# Altium integrated library Silicon Labs Clocks and Oscillators.IntLib: 678 symbols (part 33 of 45)
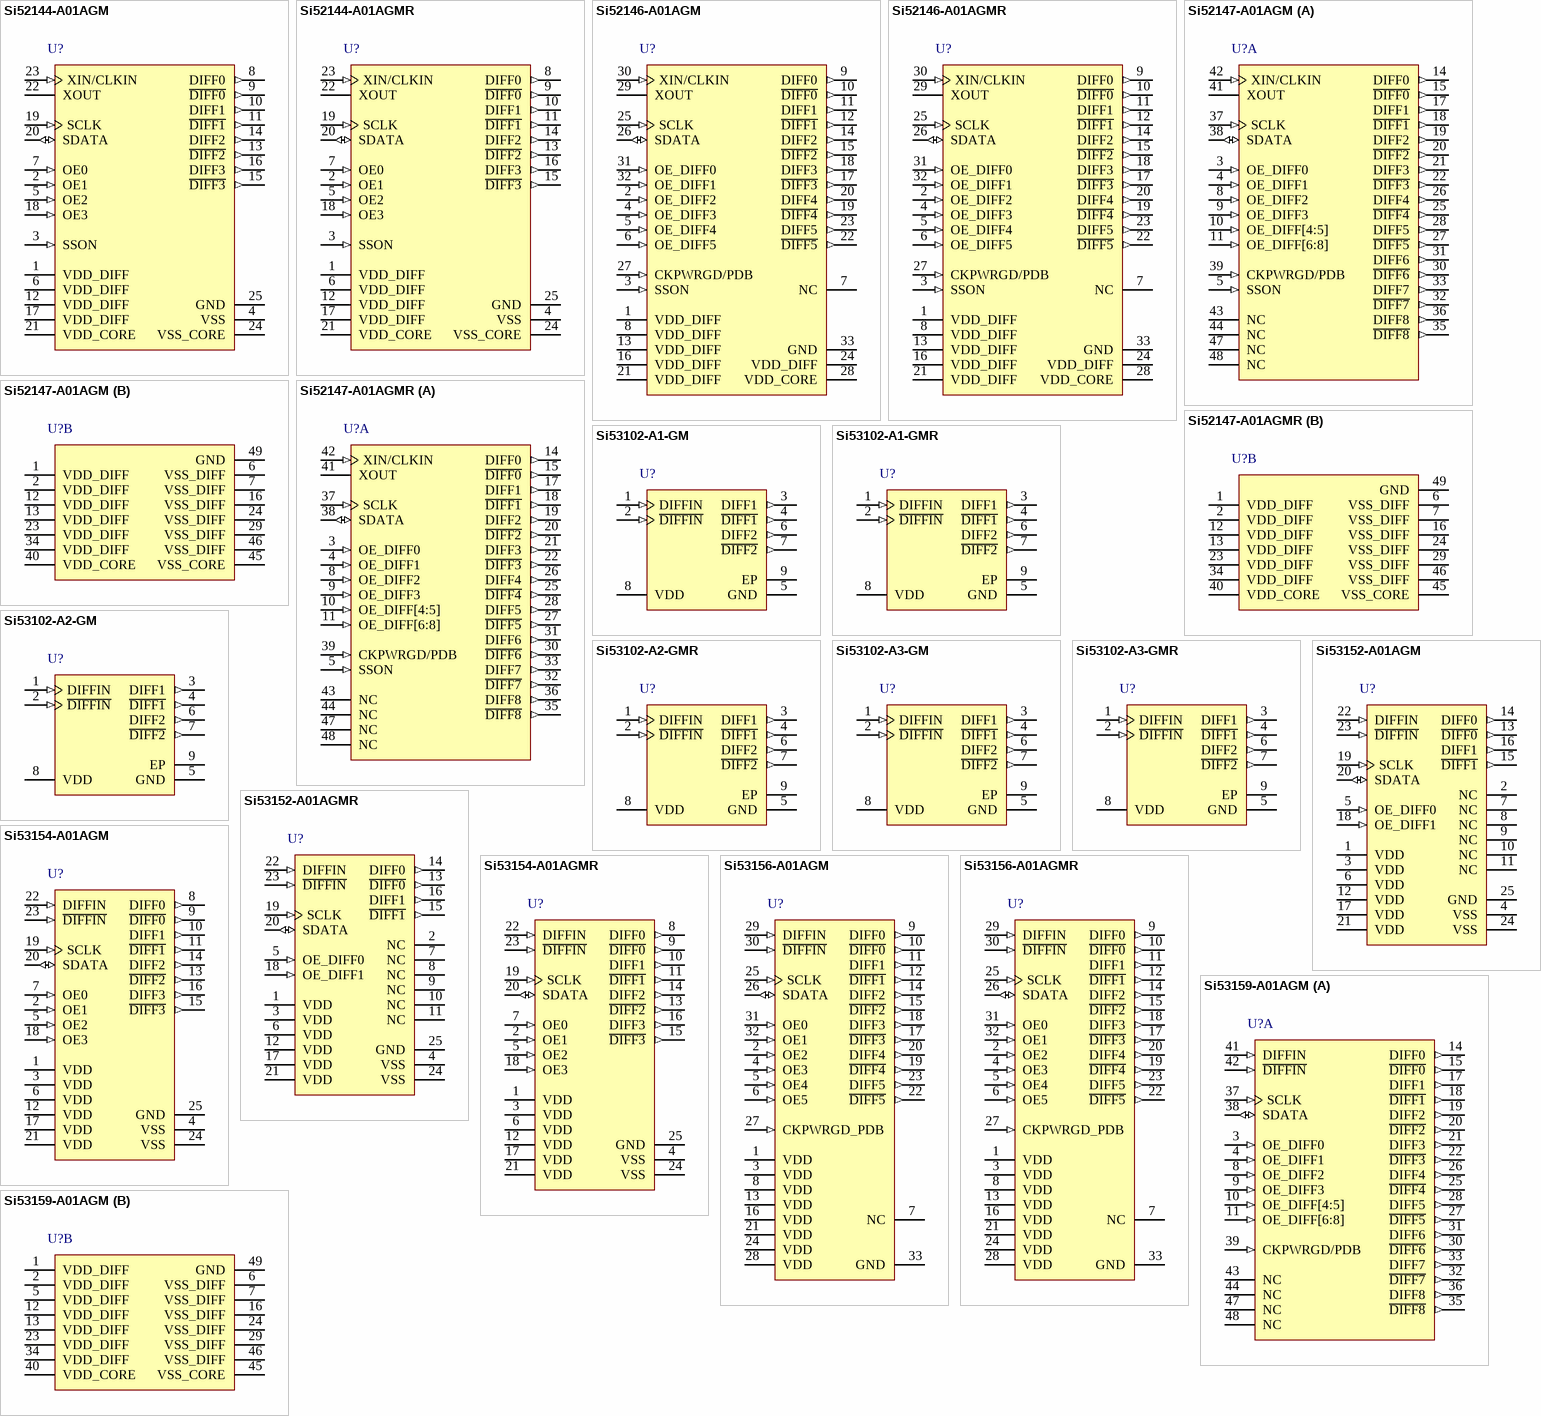
[diagram p76: symbols Si52144-A01AGM to Si53159-A01AGM]

## Si52147-A01AGMR
designator U?
PCI-Express Gen 1, Gen 2, & Gen 3 Nine Output Clock Generator, 3.3 V, 100 MHz Output, -40 to 85 degC, 48-pin QFN; Manufacturer: Silicon Labs; PartNumber: Si52147-A01AGMR; Output Format: HSCL; Output Frequency (MHz): 100; Packing: Tape and Reel; Phase Jitter (RMS): 1 ps; Reference Inputs: 1; VDD: 3.3 V; Sub-Family: Clock Generators; DatasheetVersion: Rev. 1.1; PackageVersion: Rev. 1.0, 05/2012; PackageReference: QFN-48; PackageDescription: 48-Pin Quad-Flat No-Leads Package, Body 6 x 6 mm, Pitch 0.4 mm; Supplier 1: Digi-Key; Supplier Part Number 1: SI52147-A01AGMR-ND; Supplier 2: Mouser; Supplier Part Number 2: 634-SI52147-A01AGMR; Mounting Technology: Surface Mount; Code_JEDEC: MO-220; Code_IPC: J-STD-020; ComponentLink1Description: Manufacturer URL; ComponentLink1URL: http://www.silabs.com/; ComponentLink2Description: Datasheet; ComponentLink2URL: http://www.silabs.com/Support%20Documents/TechnicalDocs/Si52147.pdf; ComponentLink3Description: Package Specification; ComponentLink3URL: http://www.silabs.com/Support%20Documents/TechnicalDocs/Si53159.pdf
footprint SLAB-QFN-48-4400x4400TP_A_N (QFN, 48-Leads, Body 6x6mm, Pitch 0.4mm, Thermal Pad 4.4x4.4mm, IPC Medium Density)
footprint SLAB-QFN-48-4400x4400TP_A_L (QFN, 48-Leads, Body 6x6mm, Pitch 0.4mm, Thermal Pad 4.4x4.4mm, IPC High Density)
footprint SLAB-QFN-48-4400x4400TP_A_M (QFN, 48-Leads, Body 6x6mm, Pitch 0.4mm, Thermal Pad 4.4x4.4mm, IPC Low Density)
part A pins: 3 OE_DIFF0 (in) "Active high input pin enables DIFF0 (internal 100 kohm pull-up).", 4 OE_DIFF1 (in) "Active high input pin enables DIFF1 (internal 100 kohm pull-up).", 5 SSON (in) "Active high input pin enables -0.5% spread on DIFF clocks (internal 100 kohm pull-down)", 8 OE_DIFF2 (in) "Active high input pin enables DIFF2 (internal 100 kohm pull-up).", 9 OE_DIFF3 (in) "Active high input pin enables DIFF3 (internal 100 kohm pull-up).", 10 OE_DIFF[4:5] (in) "Active high input pin enables DIFF[4:5] (internal 100 kohm pull-up).", 11 OE_DIFF[6:8] (in) "Active high input pin enables DIFF[6:8] (internal 100 kohm pull-up).", 14 DIFF0 (out) "0.7 V, 100 MHz differential clock", 15 ~{DIFF0} (out) "0.7 V, 100 MHz differential clock", 17 DIFF1 (out) "0.7 V, 100 MHz differential clock", 18 ~{DIFF1} (out) "0.7 V, 100 MHz differential clock", 19 DIFF2 (out) "0.7 V, 100 MHz differential clock", 20 ~{DIFF2} (out) "0.7 V, 100 MHz differential clock", 21 DIFF3 (out) "0.7 V, 100 MHz differential clock", 22 ~{DIFF3} (out) "0.7 V, 100 MHz differential clock", 25 ~{DIFF4} (out) "0.7 V, 100 MHz differential clock", 26 DIFF4 (out) "0.7 V, 100 MHz differential clock", 27 ~{DIFF5} (out) "0.7 V, 100 MHz differential clock", 28 DIFF5 (out) "0.7 V, 100 MHz differential clock", 30 ~{DIFF6} (out) "0.7 V, 100 MHz differential clock", 31 DIFF6 (out) "0.7 V, 100 MHz differential clock", 32 ~{DIFF7} (out) "0.7 V, 100 MHz differential clock", 33 DIFF7 (out) "0.7 V, 100 MHz differential clock", 35 ~{DIFF8} (out) "0.7 V, 100 MHz differential clock", 36 DIFF8 (out) "0.7 V, 100 MHz differential clock", 37 SCLK (in) "I2C compatible SCLOCK", 38 SDATA (io) "I2C compatible SDATA", 39 CKPWRGD/PDB (in) "Active low input pin asserts power down (PDB) and disables all outputs (internal 100 kohm pull-up).", 41 XOUT "25.00 MHz crystal output, Float XOUT if using only CLKIN (Clock input).", 42 XIN/CLKIN (in) "25.00 MHz crystal input or 3.3 V, 25 MHz Clock Input.", 43 NC "No Connect", 44 NC "No Connect", 47 NC "No Connect", 48 NC "No Connect"
part B pins: 1 VDD_DIFF (power) "3.3 V Power Supply", 2 VDD_DIFF (power) "3.3 V Power Supply", 6 VSS_DIFF (power) "Ground", 7 VSS_DIFF (power) "Ground", 12 VDD_DIFF (power) "3.3 V Power Supply", 13 VDD_DIFF (power) "3.3 V Power Supply", 16 VSS_DIFF (power) "Ground", 23 VDD_DIFF (power) "3.3V Power Supply", 24 VSS_DIFF (power) "Ground", 29 VSS_DIFF (power) "Ground", 34 VDD_DIFF (power) "3.3 V Power Supply", 40 VDD_CORE (power) "3.3 V Power Supply", 45 VSS_CORE (power) "Ground", 46 VSS_DIFF (power) "Ground", 49 GND (power) "Ground for bottom pad of the IC."

## Si53102-A1-GM
designator U?
PCI-Express Gen 1, 1:2 Fan-out Clock Buffer, 100 MHz, -40 to 85 degC, 8-pin SON; Manufacturer: Silicon Labs; PartNumber: Si53102-A1-GM; Frequency (MHz): 100; Output Format: HCSL; Sub-Family: Clock Buffers; DatasheetVersion: Rev. 1.1; PackageReference: TDFN-8; PackageDescription: 8-Pin Thin Dual Flat No-Lead Package, Body 1.6 x 1.4 mm, Pitch 0.4 mm; Supplier 1: Digi-Key; Supplier Part Number 1: SI53102-A1-GM-ND; Supplier 2: Mouser; Supplier Part Number 2: 634-SI53102-A1-GM; Mounting Technology: Surface Mount; Code_IPC: J-STD-020; ComponentLink1Description: Manufacturer URL; ComponentLink1URL: http://www.silabs.com/; ComponentLink2Description: Datasheet; ComponentLink2URL: http://www.silabs.com/Support%20Documents/TechnicalDocs/Si53102-A1-A2-A3.pdf; ComponentLink3Description: Package Specification; ComponentLink3URL: http://www.silabs.com/Support%20Documents/TechnicalDocs/Si53102-A1-A2-A3.pdf
footprint SLAB-TDFN-8_V (SON, 8-Leads, Body 1.6x1.4mm, Pitch 0.4mm, Thermal Pad 1.1x0.25mm)
pins: 1 DIFFIN (in) "0.7 V, 100 MHz differentials clock input", 2 ~{DIFFIN} (in) "0.7 V, 100 MHz differentials clock input", 3 DIFF1 (out) "0.7 V, 100 MHz differential clock output", 4 ~{DIFF1} (out) "0.7 V, 100 MHz differential clock output", 5 GND (power) "Ground", 6 DIFF2 (out) "0.7 V, 100 MHz differential clock output", 7 ~{DIFF2} (out) "0.7 V, 100 MHz differential clock output", 8 VDD (power) "2.5 V or 3.3 V Power supply", 9 EP

## Si53102-A1-GMR
designator U?
PCI-Express Gen 1, 1:2 Fan-out Clock Buffer, 100 MHz, -40 to 85 degC, 8-pin SON, Tape and Reel; Manufacturer: Silicon Labs; PartNumber: Si53102-A1-GMR; Frequency (MHz): 100; Output Format: HCSL; Sub-Family: Clock Buffers; DatasheetVersion: Rev. 1.1; PackageReference: TDFN-8; PackageDescription: 8-Pin Thin Dual Flat No-Lead Package, Body 1.6 x 1.4 mm, Pitch 0.4 mm; Supplier 1: Digi-Key; Supplier Part Number 1: SI53102-A1-GMR-ND; Supplier 2: Mouser; Supplier Part Number 2: 634-SI53102-A1-GMR; Packing: Tape and Reel; Mounting Technology: Surface Mount; Code_IPC: J-STD-020; ComponentLink1Description: Manufacturer URL; ComponentLink1URL: http://www.silabs.com/; ComponentLink2Description: Datasheet; ComponentLink2URL: http://www.silabs.com/Support%20Documents/TechnicalDocs/Si53102-A1-A2-A3.pdf; ComponentLink3Description: Package Specification; ComponentLink3URL: http://www.silabs.com/Support%20Documents/TechnicalDocs/Si53102-A1-A2-A3.pdf
footprint SLAB-TDFN-8_V (SON, 8-Leads, Body 1.6x1.4mm, Pitch 0.4mm, Thermal Pad 1.1x0.25mm)
pins: 1 DIFFIN (in) "0.7 V, 100 MHz differentials clock input", 2 ~{DIFFIN} (in) "0.7 V, 100 MHz differentials clock input", 3 DIFF1 (out) "0.7 V, 100 MHz differential clock output", 4 ~{DIFF1} (out) "0.7 V, 100 MHz differential clock output", 5 GND (power) "Ground", 6 DIFF2 (out) "0.7 V, 100 MHz differential clock output", 7 ~{DIFF2} (out) "0.7 V, 100 MHz differential clock output", 8 VDD (power) "2.5 V or 3.3 V Power supply", 9 EP

## Si53102-A2-GM
designator U?
PCI-Express Gen 2, 1:2 Fan-out Clock Buffer, 100 MHz, -40 to 85 degC, 8-pin SON; Manufacturer: Silicon Labs; PartNumber: Si53102-A2-GM; Frequency (MHz): 100; Output Format: HCSL; Sub-Family: Clock Buffers; DatasheetVersion: Rev. 1.1; PackageReference: TDFN-8; PackageDescription: 8-Pin Thin Dual Flat No-Lead Package, Body 1.6 x 1.4 mm, Pitch 0.4 mm; Supplier 1: Digi-Key; Supplier Part Number 1: SI53102-A2-GM-ND; Supplier 2: Mouser; Supplier Part Number 2: 634-SI53102-A2-GM; Mounting Technology: Surface Mount; Code_IPC: J-STD-020; ComponentLink1Description: Manufacturer URL; ComponentLink1URL: http://www.silabs.com/; ComponentLink2Description: Datasheet; ComponentLink2URL: http://www.silabs.com/Support%20Documents/TechnicalDocs/Si53102-A1-A2-A3.pdf; ComponentLink3Description: Package Specification; ComponentLink3URL: http://www.silabs.com/Support%20Documents/TechnicalDocs/Si53102-A1-A2-A3.pdf
footprint SLAB-TDFN-8_V (SON, 8-Leads, Body 1.6x1.4mm, Pitch 0.4mm, Thermal Pad 1.1x0.25mm)
pins: 1 DIFFIN (in) "0.7 V, 100 MHz differentials clock input", 2 ~{DIFFIN} (in) "0.7 V, 100 MHz differentials clock input", 3 DIFF1 (out) "0.7 V, 100 MHz differential clock output", 4 ~{DIFF1} (out) "0.7 V, 100 MHz differential clock output", 5 GND (power) "Ground", 6 DIFF2 (out) "0.7 V, 100 MHz differential clock output", 7 ~{DIFF2} (out) "0.7 V, 100 MHz differential clock output", 8 VDD (power) "2.5 V or 3.3 V Power supply", 9 EP

## Si53102-A2-GMR
designator U?
PCI-Express Gen 2, 1:2 Fan-out Clock Buffer, 100 MHz, -40 to 85 degC, 8-pin SON, Tape and Reel; Manufacturer: Silicon Labs; PartNumber: Si53102-A2-GMR; Frequency (MHz): 100; Output Format: HCSL; Sub-Family: Clock Buffers; DatasheetVersion: Rev. 1.1; PackageReference: TDFN-8; PackageDescription: 8-Pin Thin Dual Flat No-Lead Package, Body 1.6 x 1.4 mm, Pitch 0.4 mm; Supplier 1: Digi-Key; Supplier Part Number 1: SI53102-A2-GMR-ND; Supplier 2: Mouser; Supplier Part Number 2: 634-SI53102-A2-GMR; Packing: Tape and Reel; Mounting Technology: Surface Mount; Code_IPC: J-STD-020; ComponentLink1Description: Manufacturer URL; ComponentLink1URL: http://www.silabs.com/; ComponentLink2Description: Datasheet; ComponentLink2URL: http://www.silabs.com/Support%20Documents/TechnicalDocs/Si53102-A1-A2-A3.pdf; ComponentLink3Description: Package Specification; ComponentLink3URL: http://www.silabs.com/Support%20Documents/TechnicalDocs/Si53102-A1-A2-A3.pdf
footprint SLAB-TDFN-8_V (SON, 8-Leads, Body 1.6x1.4mm, Pitch 0.4mm, Thermal Pad 1.1x0.25mm)
pins: 1 DIFFIN (in) "0.7 V, 100 MHz differentials clock input", 2 ~{DIFFIN} (in) "0.7 V, 100 MHz differentials clock input", 3 DIFF1 (out) "0.7 V, 100 MHz differential clock output", 4 ~{DIFF1} (out) "0.7 V, 100 MHz differential clock output", 5 GND (power) "Ground", 6 DIFF2 (out) "0.7 V, 100 MHz differential clock output", 7 ~{DIFF2} (out) "0.7 V, 100 MHz differential clock output", 8 VDD (power) "2.5 V or 3.3 V Power supply", 9 EP

## Si53102-A3-GM
designator U?
PCI-Express Gen 3, 1:2 Fan-out Clock Buffer, 100 MHz, -40 to 85 degC, 8-pin SON; Manufacturer: Silicon Labs; PartNumber: Si53102-A3-GM; Frequency (MHz): 100; Output Format: HCSL; Sub-Family: Clock Buffers; DatasheetVersion: Rev. 1.1; PackageReference: TDFN-8; PackageDescription: 8-Pin Thin Dual Flat No-Lead Package, Body 1.6 x 1.4 mm, Pitch 0.4 mm; Supplier 1: Digi-Key; Supplier Part Number 1: SI53102-A3-GM-ND; Supplier 2: Mouser; Supplier Part Number 2: 634-SI53102-A3-GM; Mounting Technology: Surface Mount; Code_IPC: J-STD-020; ComponentLink1Description: Manufacturer URL; ComponentLink1URL: http://www.silabs.com/; ComponentLink2Description: Datasheet; ComponentLink2URL: http://www.silabs.com/Support%20Documents/TechnicalDocs/Si53102-A1-A2-A3.pdf; ComponentLink3Description: Package Specification; ComponentLink3URL: http://www.silabs.com/Support%20Documents/TechnicalDocs/Si53102-A1-A2-A3.pdf
footprint SLAB-TDFN-8_V (SON, 8-Leads, Body 1.6x1.4mm, Pitch 0.4mm, Thermal Pad 1.1x0.25mm)
pins: 1 DIFFIN (in) "0.7 V, 100 MHz differentials clock input", 2 ~{DIFFIN} (in) "0.7 V, 100 MHz differentials clock input", 3 DIFF1 (out) "0.7 V, 100 MHz differential clock output", 4 ~{DIFF1} (out) "0.7 V, 100 MHz differential clock output", 5 GND (power) "Ground", 6 DIFF2 (out) "0.7 V, 100 MHz differential clock output", 7 ~{DIFF2} (out) "0.7 V, 100 MHz differential clock output", 8 VDD (power) "2.5 V or 3.3 V Power supply", 9 EP

## Si53102-A3-GMR
designator U?
PCI-Express Gen 3, 1:2 Fan-out Clock Buffer, 100 MHz, -40 to 85 degC, 8-pin SON, Tape and Reel; Manufacturer: Silicon Labs; PartNumber: Si53102-A3-GMR; Frequency (MHz): 100; Output Format: HCSL; Sub-Family: Clock Buffers; DatasheetVersion: Rev. 1.1; PackageReference: TDFN-8; PackageDescription: 8-Pin Thin Dual Flat No-Lead Package, Body 1.6 x 1.4 mm, Pitch 0.4 mm; Supplier 1: Digi-Key; Supplier Part Number 1: SI53102-A3-GMR-ND; Supplier 2: Mouser; Supplier Part Number 2: 634-SI53102-A3-GMR; Packing: Tape and Reel; Mounting Technology: Surface Mount; Code_IPC: J-STD-020; ComponentLink1Description: Manufacturer URL; ComponentLink1URL: http://www.silabs.com/; ComponentLink2Description: Datasheet; ComponentLink2URL: http://www.silabs.com/Support%20Documents/TechnicalDocs/Si53102-A1-A2-A3.pdf; ComponentLink3Description: Package Specification; ComponentLink3URL: http://www.silabs.com/Support%20Documents/TechnicalDocs/Si53102-A1-A2-A3.pdf
footprint SLAB-TDFN-8_V (SON, 8-Leads, Body 1.6x1.4mm, Pitch 0.4mm, Thermal Pad 1.1x0.25mm)
pins: 1 DIFFIN (in) "0.7 V, 100 MHz differentials clock input", 2 ~{DIFFIN} (in) "0.7 V, 100 MHz differentials clock input", 3 DIFF1 (out) "0.7 V, 100 MHz differential clock output", 4 ~{DIFF1} (out) "0.7 V, 100 MHz differential clock output", 5 GND (power) "Ground", 6 DIFF2 (out) "0.7 V, 100 MHz differential clock output", 7 ~{DIFF2} (out) "0.7 V, 100 MHz differential clock output", 8 VDD (power) "2.5 V or 3.3 V Power supply", 9 EP

## Si53152-A01AGM
designator U?
PCI-Express Gen 1, Gen 2, & Gen 3 Fanout Buffer, 100 to 210 MHz, -40 to 85 degC, 24-pin QFN; Manufacturer: Silicon Labs; PartNumber: Si53152-A01AGM; Output Format: HSCL; Sub-Family: Clock Buffers; DatasheetVersion: Rev. 1.0; PackageReference: QFN-24; PackageDescription: 24-Pin Quad-Flat No-Leads Package, Body 4 x 4 mm, Pitch 0.5 mm; Supplier 1: Digi-Key; Supplier Part Number 1: 336-2162-ND; Supplier 2: Mouser; Supplier Part Number 2: 634-SI53152A01A-GM; Mounting Technology: Surface Mount; Code_JEDEC: MO-220; Code_IPC: J-STD-020; ComponentLink1Description: Manufacturer URL; ComponentLink1URL: http://www.silabs.com/; ComponentLink2Description: Datasheet; ComponentLink2URL: http://www.silabs.com/Support%20Documents/TechnicalDocs/Si53152.pdf; ComponentLink3Description: Package Specification; ComponentLink3URL: http://www.silabs.com/Support%20Documents/TechnicalDocs/Si53152.pdf
footprint SLAB-QFN-24-2700x2700TP_N (QFN, 24-Leads, Body 4x4mm, Pitch 0.5mm, Thermal Pad 2.7x2.7mm, IPC Medium Density)
footprint SLAB-QFN-24-2700x2700TP_L (QFN, 24-Leads, Body 4x4mm, Pitch 0.5mm, Thermal Pad 2.7x2.7mm, IPC High Density)
footprint SLAB-QFN-24-2700x2700TP_M (QFN, 24-Leads, Body 4x4mm, Pitch 0.5mm, Thermal Pad 2.7x2.7mm, IPC Low Density)
pins: 1 VDD (power) "3.3 V power supply.", 2 NC "No connect.", 3 VDD (power) "3.3 V power supply.", 4 VSS (power) "Ground.", 5 OE_DIFF0 (in) "Active high input pin enables DIFF0 (internal 100 kohm pull-up). Refer to Table 1 on page 4 for OE specifications.", 6 VDD (power) "3.3 V power supply.", 7 NC "No connect.", 8 NC "No connect.", 9 NC "No connect.", 10 NC "No connect.", 11 NC "No connect.", 12 VDD (power) "3.3 V power supply.", 13 ~{DIFF0} (out) "0.7 V, 100 MHz differential clock.", 14 DIFF0 (out) "0.7 V, 100 MHz differential clock.", 15 ~{DIFF1} (out) "0.7 V, 100 MHz differential clock.", 16 DIFF1 (out) "0.7 V, 100 MHz differential clock.", 17 VDD (power) "3.3 V power supply.", 18 OE_DIFF1 (in) "Active high input pin enables DIFF1 (internal 100 kohm pull-up). Refer to Table 1 on page 4 for OE specifications.", 19 SCLK (in) "SMBus compatible SCLOCK.", 20 SDATA (io) "SMBus compatible SDATA.", 21 VDD (power) "3.3 V power supply.", 22 DIFFIN (in) "0.7 V Differential True Input, typically 100 MHz. Input frequency range 100 to 210 MHz.", 23 ~{DIFFIN} (in) "0.7 V Differential Complement Input, typically 100 MHz. Input frequency range 100 to 210 MHz.", 24 VSS (power) "Ground.", 25 GND (power) "Ground for bottom pad of the IC."

## Si53152-A01AGMR
designator U?
PCI-Express Gen 1, Gen 2, & Gen 3 Fanout Buffer, 100 to 210 MHz, -40 to 85 degC, 24-pin QFN, Tape and Reel; Manufacturer: Silicon Labs; PartNumber: Si53152-A01AGMR; Output Format: HSCL; Sub-Family: Clock Buffers; DatasheetVersion: Rev. 1.0; PackageReference: QFN-24; PackageDescription: 24-Pin Quad-Flat No-Leads Package, Body 4 x 4 mm, Pitch 0.5 mm; Supplier 1: Digi-Key; Supplier Part Number 1: SI53152-A01AGMR-ND; Supplier 2: Mouser; Supplier Part Number 2: 634-SI53152-A01AGMR; Packing: Tape and Reel; Mounting Technology: Surface Mount; Code_JEDEC: MO-220; Code_IPC: J-STD-020; ComponentLink1Description: Manufacturer URL; ComponentLink1URL: http://www.silabs.com/; ComponentLink2Description: Datasheet; ComponentLink2URL: http://www.silabs.com/Support%20Documents/TechnicalDocs/Si53152.pdf; ComponentLink3Description: Package Specification; ComponentLink3URL: http://www.silabs.com/Support%20Documents/TechnicalDocs/Si53152.pdf
footprint SLAB-QFN-24-2700x2700TP_N (QFN, 24-Leads, Body 4x4mm, Pitch 0.5mm, Thermal Pad 2.7x2.7mm, IPC Medium Density)
footprint SLAB-QFN-24-2700x2700TP_L (QFN, 24-Leads, Body 4x4mm, Pitch 0.5mm, Thermal Pad 2.7x2.7mm, IPC High Density)
footprint SLAB-QFN-24-2700x2700TP_M (QFN, 24-Leads, Body 4x4mm, Pitch 0.5mm, Thermal Pad 2.7x2.7mm, IPC Low Density)
pins: 1 VDD (power) "3.3 V power supply.", 2 NC "No connect.", 3 VDD (power) "3.3 V power supply.", 4 VSS (power) "Ground.", 5 OE_DIFF0 (in) "Active high input pin enables DIFF0 (internal 100 kohm pull-up). Refer to Table 1 on page 4 for OE specifications.", 6 VDD (power) "3.3 V power supply.", 7 NC "No connect.", 8 NC "No connect.", 9 NC "No connect.", 10 NC "No connect.", 11 NC "No connect.", 12 VDD (power) "3.3 V power supply.", 13 ~{DIFF0} (out) "0.7 V, 100 MHz differential clock.", 14 DIFF0 (out) "0.7 V, 100 MHz differential clock.", 15 ~{DIFF1} (out) "0.7 V, 100 MHz differential clock.", 16 DIFF1 (out) "0.7 V, 100 MHz differential clock.", 17 VDD (power) "3.3 V power supply.", 18 OE_DIFF1 (in) "Active high input pin enables DIFF1 (internal 100 kohm pull-up). Refer to Table 1 on page 4 for OE specifications.", 19 SCLK (in) "SMBus compatible SCLOCK.", 20 SDATA (io) "SMBus compatible SDATA.", 21 VDD (power) "3.3 V power supply.", 22 DIFFIN (in) "0.7 V Differential True Input, typically 100 MHz. Input frequency range 100 to 210 MHz.", 23 ~{DIFFIN} (in) "0.7 V Differential Complement Input, typically 100 MHz. Input frequency range 100 to 210 MHz.", 24 VSS (power) "Ground.", 25 GND (power) "Ground for bottom pad of the IC."

## Si53154-A01AGM
designator U?
PCI-Express Gen 1, Gen 2, & Gen 3 Quad Fanout Buffer, 100 to 210 MHz, -40 to 85 degC, 24-pin QFN; Manufacturer: Silicon Labs; PartNumber: Si53154-A01AGM; Output Format: HSCL; Sub-Family: Clock Buffers; DatasheetVersion: Rev. 1.0; PackageReference: QFN-24; PackageDescription: 24-Pin Quad-Flat No-Leads Package, Body 4 x 4 mm, Pitch 0.5 mm; Supplier 1: Digi-Key; Supplier Part Number 1: 336-2163-ND; Supplier 2: Mouser; Supplier Part Number 2: 634-SI53154A01A-GM; Mounting Technology: Surface Mount; Code_JEDEC: MO-220; Code_IPC: J-STD-020; ComponentLink1Description: Manufacturer URL; ComponentLink1URL: http://www.silabs.com/; ComponentLink2Description: Datasheet; ComponentLink2URL: http://www.silabs.com/Support%20Documents/TechnicalDocs/Si53154.pdf; ComponentLink3Description: Package Specification; ComponentLink3URL: http://www.silabs.com/Support%20Documents/TechnicalDocs/Si53152.pdf
footprint SLAB-QFN-24-2700x2700TP_N (QFN, 24-Leads, Body 4x4mm, Pitch 0.5mm, Thermal Pad 2.7x2.7mm, IPC Medium Density)
footprint SLAB-QFN-24-2700x2700TP_L (QFN, 24-Leads, Body 4x4mm, Pitch 0.5mm, Thermal Pad 2.7x2.7mm, IPC High Density)
footprint SLAB-QFN-24-2700x2700TP_M (QFN, 24-Leads, Body 4x4mm, Pitch 0.5mm, Thermal Pad 2.7x2.7mm, IPC Low Density)
pins: 1 VDD (power) "3.3 V power supply.", 2 OE1 (in) "Active high input pin enables DIFF1 (internal 100 kohm pull-up). Refer to Table 1 on page 4 for OE specifications.", 3 VDD (power) "3.3 V power supply.", 4 VSS (power) "Ground.", 5 OE2 (in) "Active high input pin enables DIFF2 (internal 100 kohm pull-up). Refer to Table 1 on page 4 for OE specifications.", 6 VDD (power) "3.3 V power supply.", 7 OE0 (in) "Active high input pin enables DIFF0 (internal 100 kohm pull-up). Refer to Table 1 on page 4 for OE specifications.", 8 DIFF0 (out) "0.7 V, differential clock output.", 9 ~{DIFF0} (out) "0.7 V, differential clock output.", 10 DIFF1 (out) "0.7 V, differential clock output.", 11 ~{DIFF1} (out) "0.7 V, differential clock output.", 12 VDD (power) "3.3 V power supply.", 13 ~{DIFF2} (out) "0.7 V, differential clock output.", 14 DIFF2 (out) "0.7 V, differential clock output.", 15 ~{DIFF3} (out) "0.7 V, differential clock output.", 16 DIFF3 (out) "0.7 V, differential clock output.", 17 VDD (power) "3.3 V power supply.", 18 OE3 (in) "Active high input pin enables DIFF3 (internal 100 kohm pull-up). Refer to Table 1 on page 4 for OE specifications.", 19 SCLK (in) "SMBus compatible SCLOCK.", 20 SDATA (io) "SMBus compatible SDATA.", 21 VDD (power) "3.3 V power supply.", 22 DIFFIN (in) "0.7 V Differential True Input, typically 100 MHz. Input frequency range 100 to 210 MHz.", 23 ~{DIFFIN} (in) "0.7 V Differential Complement Input, typically 100 MHz. Input frequency range 100 to 210 MHz.", 24 VSS (power) "Ground.", 25 GND (power) "Ground for bottom pad of the IC."

## Si53154-A01AGMR
designator U?
PCI-Express Gen 1, Gen 2, & Gen 3 Quad Fanout Buffer, 100 to 210 MHz, -40 to 85 degC, 24-pin QFN, Tape and Reel; Manufacturer: Silicon Labs; PartNumber: Si53154-A01AGMR; Output Format: HSCL; Sub-Family: Clock Buffers; DatasheetVersion: Rev. 1.0; PackageReference: QFN-24; PackageDescription: 24-Pin Quad-Flat No-Leads Package, Body 4 x 4 mm, Pitch 0.5 mm; Supplier 1: Digi-Key; Supplier Part Number 1: SI53154-A01AGMR-ND; Supplier 2: Mouser; Supplier Part Number 2: 634-SI53154-A01AGMR; Packing: Tape and Reel; Mounting Technology: Surface Mount; Code_JEDEC: MO-220; Code_IPC: J-STD-020; ComponentLink1Description: Manufacturer URL; ComponentLink1URL: http://www.silabs.com/; ComponentLink2Description: Datasheet; ComponentLink2URL: http://www.silabs.com/Support%20Documents/TechnicalDocs/Si53154.pdf; ComponentLink3Description: Package Specification; ComponentLink3URL: http://www.silabs.com/Support%20Documents/TechnicalDocs/Si53152.pdf
footprint SLAB-QFN-24-2700x2700TP_N (QFN, 24-Leads, Body 4x4mm, Pitch 0.5mm, Thermal Pad 2.7x2.7mm, IPC Medium Density)
footprint SLAB-QFN-24-2700x2700TP_L (QFN, 24-Leads, Body 4x4mm, Pitch 0.5mm, Thermal Pad 2.7x2.7mm, IPC High Density)
footprint SLAB-QFN-24-2700x2700TP_M (QFN, 24-Leads, Body 4x4mm, Pitch 0.5mm, Thermal Pad 2.7x2.7mm, IPC Low Density)
pins: 1 VDD (power) "3.3 V power supply.", 2 OE1 (in) "Active high input pin enables DIFF1 (internal 100 kohm pull-up). Refer to Table 1 on page 4 for OE specifications.", 3 VDD (power) "3.3 V power supply.", 4 VSS (power) "Ground.", 5 OE2 (in) "Active high input pin enables DIFF2 (internal 100 kohm pull-up). Refer to Table 1 on page 4 for OE specifications.", 6 VDD (power) "3.3 V power supply.", 7 OE0 (in) "Active high input pin enables DIFF0 (internal 100 kohm pull-up). Refer to Table 1 on page 4 for OE specifications.", 8 DIFF0 (out) "0.7 V, differential clock output.", 9 ~{DIFF0} (out) "0.7 V, differential clock output.", 10 DIFF1 (out) "0.7 V, differential clock output.", 11 ~{DIFF1} (out) "0.7 V, differential clock output.", 12 VDD (power) "3.3 V power supply.", 13 ~{DIFF2} (out) "0.7 V, differential clock output.", 14 DIFF2 (out) "0.7 V, differential clock output.", 15 ~{DIFF3} (out) "0.7 V, differential clock output.", 16 DIFF3 (out) "0.7 V, differential clock output.", 17 VDD (power) "3.3 V power supply.", 18 OE3 (in) "Active high input pin enables DIFF3 (internal 100 kohm pull-up). Refer to Table 1 on page 4 for OE specifications.", 19 SCLK (in) "SMBus compatible SCLOCK.", 20 SDATA (io) "SMBus compatible SDATA.", 21 VDD (power) "3.3 V power supply.", 22 DIFFIN (in) "0.7 V Differential True Input, typically 100 MHz. Input frequency range 100 to 210 MHz.", 23 ~{DIFFIN} (in) "0.7 V Differential Complement Input, typically 100 MHz. Input frequency range 100 to 210 MHz.", 24 VSS (power) "Ground.", 25 GND (power) "Ground for bottom pad of the IC."

## Si53156-A01AGM
designator U?
PCI-Express Gen 1, Gen 2, & Gen 3 Fanout Buffer, 100 to 210 MHz, -40 to 85 degC, 32-pin QFN; Manufacturer: Silicon Labs; PartNumber: Si53156-A01AGM; Output Format: HSCL; Sub-Family: Clock Buffers; DatasheetVersion: Rev. 1.0; PackageReference: QFN-32; PackageDescription: 32-Pin Quad-Flat No-Leads Package, Body 5 x 5 mm, Pitch 0.5 mm; Supplier 1: Digi-Key; Supplier Part Number 1: 336-2164-ND; Supplier 2: Mouser; Supplier Part Number 2: 634-SI53156A01A-GM; Mounting Technology: Surface Mount; Code_JEDEC: MO-220; Code_IPC: J-STD-020; ComponentLink1Description: Manufacturer URL; ComponentLink1URL: http://www.silabs.com/; ComponentLink2Description: Datasheet; ComponentLink2URL: http://www.silabs.com/Support%20Documents/TechnicalDocs/Si53156.pdf; ComponentLink3Description: Package Specification; ComponentLink3URL: http://www.silabs.com/Support%20Documents/TechnicalDocs/Si52146.pdf
footprint SLAB-QFN-32-3200x3200TP_N (QFN, 32-Leads, Body 5x5mm, Pitch 0.5mm, Thermal Pad 3.2x3.2mm, IPC Medium Density)
footprint SLAB-QFN-32-3200x3200TP_L (QFN, 32-Leads, Body 5x5mm, Pitch 0.5mm, Thermal Pad 3.2x3.2mm, IPC High Density)
footprint SLAB-QFN-32-3200x3200TP_M (QFN, 32-Leads, Body 5x5mm, Pitch 0.5mm, Thermal Pad 3.2x3.2mm, IPC Low Density)
pins: 1 VDD (power) "3.3 V power supply.", 2 OE2 (in) "Active high input pin enables DIFF2 (internal 100 k ohm pull-up).Refer to Table 1 on page 4 for OE specifications", 3 VDD (power) "3.3 V power supply.", 4 OE3 (in) "Active high input pin enables DIFF3 (internal 100 k ohm pull-up).Refer to Table 1 on page 4 for OE specifications", 5 OE4 (in) "Active high input pin enables DIFF4 (internal 100 k ohm pull-up).Refer to Table 1 on page 4 for OE specifications", 6 OE5 (in) "Active high input pin enables DIFF5 (internal 100 k ohm pull-up).Refer to Table 1 on page 4 for OE specifications", 7 NC "No connect.", 8 VDD (power) "3.3 V power supply.", 9 DIFF0 (out) "0.7 V, 100 MHz differential clock.", 10 ~{DIFF0} (out) "0.7 V, 100 MHz differential clock.", 11 DIFF1 (out) "0.7 V, 100 MHz differential clock.", 12 ~{DIFF1} (out) "0.7 V, 100 MHz differential clock.", 13 VDD (power) "3.3 V power supply.", 14 DIFF2 (out) "0.7 V, 100 MHz differential clock.", 15 ~{DIFF2} (out) "0.7 V, 100 MHz differential clock.", 16 VDD (power) "3.3 V power supply.", 17 ~{DIFF3} (out) "0.7 V, 100 MHz differential clock.", 18 DIFF3 (out) "0.7 V, 100 MHz differential clock.", 19 ~{DIFF4} (out) "0.7 V, 100 MHz differential clock.", 20 DIFF4 (out) "0.7 V, 100 MHz differential clock.", 21 VDD (power) "3.3 V power supply.", 22 ~{DIFF5} (out) "0.7 V, 100 MHz differential clock.", 23 DIFF5 (out) "0.7 V, 100 MHz differential clock.", 24 VDD (power) "3.3 V power supply.", 25 SCLK (in) "SMBus compatible SCLOCK.", 26 SDATA (io) "SMBus compatible SDATA.", 27 CKPWRGD_PDB (in) "3.3 V LVTTL input. This pin is a level sensitive strobe used to determine when latch inputs are valid and are ready to be sampled. A real-time active low input for asserting power down (PDB) and disabling all outputs (See Datasheet)", 28 VDD (power) "3.3 V power supply.", 29 DIFFIN (in) "0.7 V Differential True Input, typically 100 MHz. Input frequency range 100 to 210 MHz.", 30 ~{DIFFIN} (in) "0.7 V Differential Complement Input, typically 100 MHz. Input frequency range 100 to 210 MHz.", 31 OE0 (in) "Active high input pin enables DIFF0 (internal 100 k ohm pull-up).Refer to Table 1 on page 4 for OE specifications", 32 OE1 (in) "Active high input pin enables DIFF1 (internal 100 k ohm pull-up).Refer to Table 1 on page 4 for OE specifications", 33 GND (power) "Ground for bottom pad of the IC."

## Si53156-A01AGMR
designator U?
PCI-Express Gen 1, Gen 2, & Gen 3 Fanout Buffer, 100 to 210 MHz, -40 to 85 degC, 32-pin QFN, Tape and Reel; Manufacturer: Silicon Labs; PartNumber: Si53156-A01AGMR; Output Format: HSCL; Sub-Family: Clock Buffers; DatasheetVersion: Rev. 1.0; PackageReference: QFN-32; PackageDescription: 32-Pin Quad-Flat No-Leads Package, Body 5 x 5 mm, Pitch 0.5 mm; Supplier 1: Digi-Key; Supplier Part Number 1: SI53156-A01AGMR-ND; Supplier 2: Mouser; Supplier Part Number 2: 634-SI53156-A01AGMR; Packing: Tape and Reel; Mounting Technology: Surface Mount; Code_JEDEC: MO-220; Code_IPC: J-STD-020; ComponentLink1Description: Manufacturer URL; ComponentLink1URL: http://www.silabs.com/; ComponentLink2Description: Datasheet; ComponentLink2URL: http://www.silabs.com/Support%20Documents/TechnicalDocs/Si53156.pdf; ComponentLink3Description: Package Specification; ComponentLink3URL: http://www.silabs.com/Support%20Documents/TechnicalDocs/Si52146.pdf
footprint SLAB-QFN-32-3200x3200TP_N (QFN, 32-Leads, Body 5x5mm, Pitch 0.5mm, Thermal Pad 3.2x3.2mm, IPC Medium Density)
footprint SLAB-QFN-32-3200x3200TP_L (QFN, 32-Leads, Body 5x5mm, Pitch 0.5mm, Thermal Pad 3.2x3.2mm, IPC High Density)
footprint SLAB-QFN-32-3200x3200TP_M (QFN, 32-Leads, Body 5x5mm, Pitch 0.5mm, Thermal Pad 3.2x3.2mm, IPC Low Density)
pins: 1 VDD (power) "3.3 V power supply.", 2 OE2 (in) "Active high input pin enables DIFF2 (internal 100 k ohm pull-up).Refer to Table 1 on page 4 for OE specifications", 3 VDD (power) "3.3 V power supply.", 4 OE3 (in) "Active high input pin enables DIFF3 (internal 100 k ohm pull-up).Refer to Table 1 on page 4 for OE specifications", 5 OE4 (in) "Active high input pin enables DIFF4 (internal 100 k ohm pull-up).Refer to Table 1 on page 4 for OE specifications", 6 OE5 (in) "Active high input pin enables DIFF5 (internal 100 k ohm pull-up).Refer to Table 1 on page 4 for OE specifications", 7 NC "No connect.", 8 VDD (power) "3.3 V power supply.", 9 DIFF0 (out) "0.7 V, 100 MHz differential clock.", 10 ~{DIFF0} (out) "0.7 V, 100 MHz differential clock.", 11 DIFF1 (out) "0.7 V, 100 MHz differential clock.", 12 ~{DIFF1} (out) "0.7 V, 100 MHz differential clock.", 13 VDD (power) "3.3 V power supply.", 14 DIFF2 (out) "0.7 V, 100 MHz differential clock.", 15 ~{DIFF2} (out) "0.7 V, 100 MHz differential clock.", 16 VDD (power) "3.3 V power supply.", 17 ~{DIFF3} (out) "0.7 V, 100 MHz differential clock.", 18 DIFF3 (out) "0.7 V, 100 MHz differential clock.", 19 ~{DIFF4} (out) "0.7 V, 100 MHz differential clock.", 20 DIFF4 (out) "0.7 V, 100 MHz differential clock.", 21 VDD (power) "3.3 V power supply.", 22 ~{DIFF5} (out) "0.7 V, 100 MHz differential clock.", 23 DIFF5 (out) "0.7 V, 100 MHz differential clock.", 24 VDD (power) "3.3 V power supply.", 25 SCLK (in) "SMBus compatible SCLOCK.", 26 SDATA (io) "SMBus compatible SDATA.", 27 CKPWRGD_PDB (in) "3.3 V LVTTL input. This pin is a level sensitive strobe used to determine when latch inputs are valid and are ready to be sampled. A real-time active low input for asserting power down (PDB) and disabling all outputs (See Datasheet)", 28 VDD (power) "3.3 V power supply.", 29 DIFFIN (in) "0.7 V Differential True Input, typically 100 MHz. Input frequency range 100 to 210 MHz.", 30 ~{DIFFIN} (in) "0.7 V Differential Complement Input, typically 100 MHz. Input frequency range 100 to 210 MHz.", 31 OE0 (in) "Active high input pin enables DIFF0 (internal 100 k ohm pull-up).Refer to Table 1 on page 4 for OE specifications", 32 OE1 (in) "Active high input pin enables DIFF1 (internal 100 k ohm pull-up).Refer to Table 1 on page 4 for OE specifications", 33 GND (power) "Ground for bottom pad of the IC."

## Si53159-A01AGM
designator U?
PCI-Express Gen 1, Gen 2, & Gen 3 Nine Output Fanout Buffer, 100 to 210 MHz, -40 to 85 degC, 48-pin QFN; Manufacturer: Silicon Labs; PartNumber: Si53159-A01AGM; Output Format: HSCL; Sub-Family: Clock Buffers; DatasheetVersion: Rev. 1.0; PackageVersion: Rev. 1.0, 05/2012; PackageReference: QFN-48; PackageDescription: 48-Pin Quad-Flat No-Leads Package, Body 6 x 6 mm, Pitch 0.4 mm; Supplier 1: Digi-Key; Supplier Part Number 1: 336-2165-ND; Supplier 2: Mouser; Supplier Part Number 2: 634-SI53159A01A-GM; Mounting Technology: Surface Mount; Code_JEDEC: MO-220; Code_IPC: J-STD-020; ComponentLink1Description: Manufacturer URL; ComponentLink1URL: http://www.silabs.com/; ComponentLink2Description: Datasheet; ComponentLink2URL: http://www.silabs.com/Support%20Documents/TechnicalDocs/Si53159.pdf; ComponentLink3Description: Package Specification; ComponentLink3URL: http://www.silabs.com/Support%20Documents/TechnicalDocs/Si53159.pdf
footprint SLAB-QFN-48-4400x4400TP_A_N (QFN, 48-Leads, Body 6x6mm, Pitch 0.4mm, Thermal Pad 4.4x4.4mm, IPC Medium Density)
footprint SLAB-QFN-48-4400x4400TP_A_L (QFN, 48-Leads, Body 6x6mm, Pitch 0.4mm, Thermal Pad 4.4x4.4mm, IPC High Density)
footprint SLAB-QFN-48-4400x4400TP_A_M (QFN, 48-Leads, Body 6x6mm, Pitch 0.4mm, Thermal Pad 4.4x4.4mm, IPC Low Density)
part A pins: 3 OE_DIFF0 (in) "Active high input pin enables DIFF0 (internal 100kohm pull-up).", 4 OE_DIFF1 (in) "Active high input pin enables DIFF1 (internal 100kohm pull-up).", 8 OE_DIFF2 (in) "Active high input pin enables DIFF2 (internal 100kohm pull-up).", 9 OE_DIFF3 (in) "Active high input pin enables DIFF3 (internal 100kohm pull-up).", 10 OE_DIFF[4:5] (in) "Active high input pin enables DIFF[4:5] (internal 100kohm pull-up).", 11 OE_DIFF[6:8] (in) "Active high input pin enables DIFF[6:8] (internal 100kohm pull-up).", 14 DIFF0 (out) "0.7 V, 100 MHz differential clock.", 15 ~{DIFF0} (out) "0.7 V, 100 MHz differential clock.", 17 DIFF1 (out) "0.7 V, 100 MHz differential clock.", 18 ~{DIFF1} (out) "0.7 V, 100 MHz differential clock.", 19 DIFF2 (out) "0.7 V, 100 MHz differential clock.", 20 ~{DIFF2} (out) "0.7 V, 100 MHz differential clock.", 21 DIFF3 (out) "0.7 V, 100 MHz differential clock.", 22 ~{DIFF3} (out) "0.7 V, 100 MHz differential clock.", 25 ~{DIFF4} (out) "0.7 V, 100 MHz differential clock.", 26 DIFF4 (out) "0.7 V, 100 MHz differential clock.", 27 ~{DIFF5} (out) "0.7 V, 100 MHz differential clock.", 28 DIFF5 (out) "0.7 V, 100 MHz differential clock.", 30 ~{DIFF6} (out) "0.7 V, 100 MHz differential clock.", 31 DIFF6 (out) "0.7 V, 100 MHz differential clock.", 32 ~{DIFF7} (out) "0.7 V, 100 MHz differential clock.", 33 DIFF7 (out) "0.7 V, 100 MHz differential clock.", 35 ~{DIFF8} (out) "0.7 V, 100 MHz differential clock.", 36 DIFF8 (out) "0.7 V, 100 MHz differential clock.", 37 SCLK (in) "I2C compatible SCLOCK.", 38 SDATA (io) "I2C compatible SDATA.", 39 CKPWRGD/PDB (in), 41 DIFFIN (in) "0.7 V Differential True Input, typically 100 MHz. Input frequency range 100 to 210 MHz.", 42 ~{DIFFIN} (in) "0.7 V Differential Complement Input, typically 100 MHz. Input frequency range 100 to 210 MHz.", 43 NC "No connect.", 44 NC "No connect.", 47 NC "No connect.", 48 NC "No connect."
part B pins: 1 VDD_DIFF (power) "3.3 V power supply.", 2 VDD_DIFF (power) "3.3 V power supply.", 5 VDD_DIFF (power) "3.3 V power supply.", 6 VSS_DIFF (power) "Ground.", 7 VSS_DIFF (power) "Ground.", 12 VDD_DIFF (power) "3.3 V power supply.", 13 VDD_DIFF (power) "3.3 V power supply.", 16 VSS_DIFF (power) "Ground.", 23 VDD_DIFF (power) "3.3V power supply.", 24 VSS_DIFF (power) "Ground.", 29 VSS_DIFF (power) "Ground.", 34 VDD_DIFF (power) "3.3 V power supply.", 40 VDD_CORE (power) "3.3 V power supply for core.", 45 VSS_CORE (power) "Ground for core.", 46 VSS_DIFF (power) "Ground.", 49 GND (power) "Ground for bottom pad of the IC."

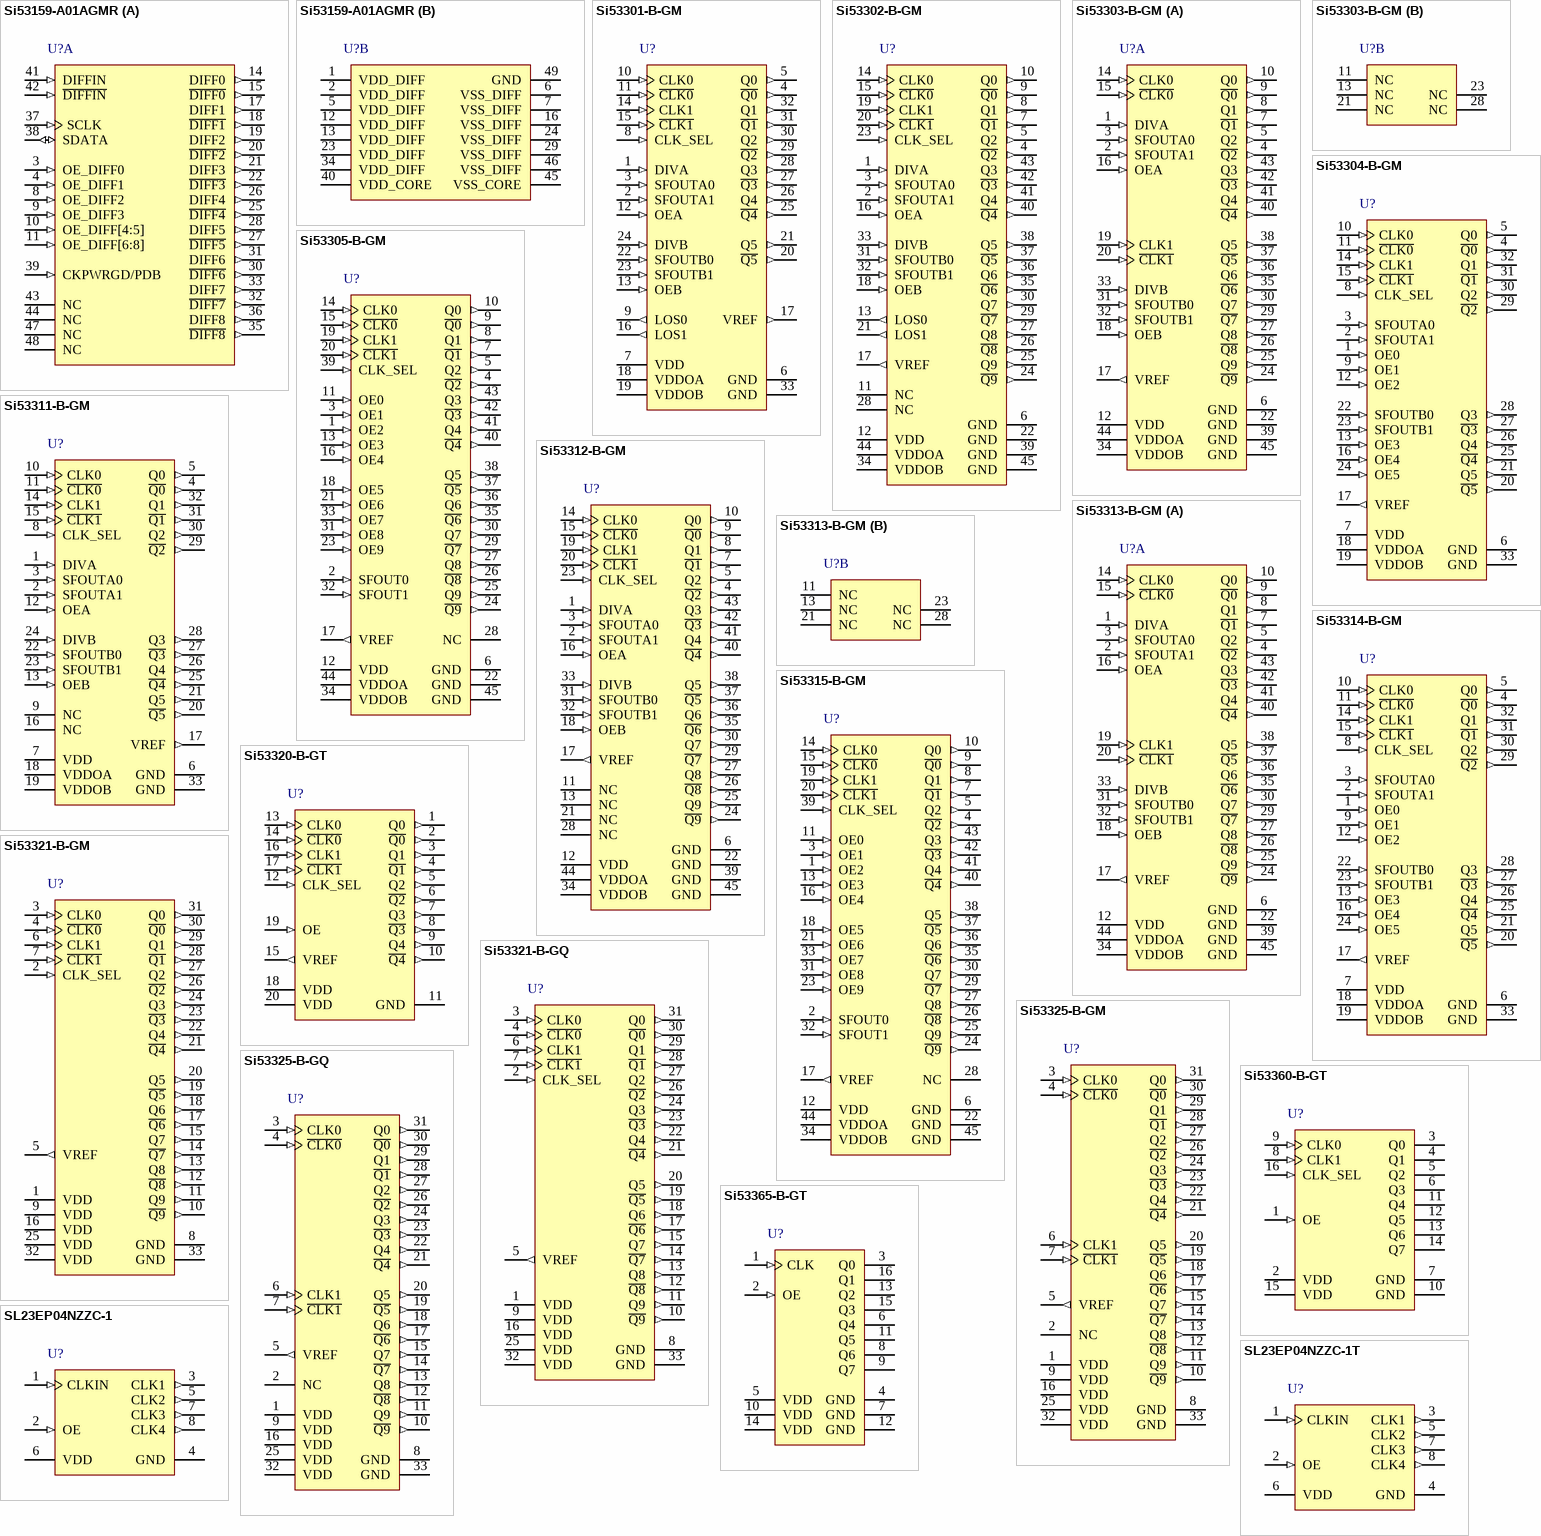
[diagram p33: symbols Si53159-A01AGMR to SL23EP04NZZC-1T]

## Si53159-A01AGMR
designator U?
PCI-Express Gen 1, Gen 2, & Gen 3 Nine Output Fanout Buffer, 100 to 210 MHz, -40 to 85 degC, 48-pin QFN, Tape and Reel; Manufacturer: Silicon Labs; PartNumber: Si53159-A01AGMR; Output Format: HSCL; Sub-Family: Clock Buffers; DatasheetVersion: Rev. 1.0; PackageVersion: Rev. 1.0, 05/2012; PackageReference: QFN-48; PackageDescription: 48-Pin Quad-Flat No-Leads Package, Body 6 x 6 mm, Pitch 0.4 mm; Supplier 1: Digi-Key; Supplier Part Number 1: SI53159-A01AGMR-ND; Supplier 2: Mouser; Supplier Part Number 2: 634-SI53159-A01AGMR; Packing: Tape and Reel; Mounting Technology: Surface Mount; Code_JEDEC: MO-220; Code_IPC: J-STD-020; ComponentLink1Description: Manufacturer URL; ComponentLink1URL: http://www.silabs.com/; ComponentLink2Description: Datasheet; ComponentLink2URL: http://www.silabs.com/Support%20Documents/TechnicalDocs/Si53159.pdf; ComponentLink3Description: Package Specification; ComponentLink3URL: http://www.silabs.com/Support%20Documents/TechnicalDocs/Si53159.pdf
footprint SLAB-QFN-48-4400x4400TP_A_N (QFN, 48-Leads, Body 6x6mm, Pitch 0.4mm, Thermal Pad 4.4x4.4mm, IPC Medium Density)
footprint SLAB-QFN-48-4400x4400TP_A_L (QFN, 48-Leads, Body 6x6mm, Pitch 0.4mm, Thermal Pad 4.4x4.4mm, IPC High Density)
footprint SLAB-QFN-48-4400x4400TP_A_M (QFN, 48-Leads, Body 6x6mm, Pitch 0.4mm, Thermal Pad 4.4x4.4mm, IPC Low Density)
part A pins: 3 OE_DIFF0 (in) "Active high input pin enables DIFF0 (internal 100kohm pull-up).", 4 OE_DIFF1 (in) "Active high input pin enables DIFF1 (internal 100kohm pull-up).", 8 OE_DIFF2 (in) "Active high input pin enables DIFF2 (internal 100kohm pull-up).", 9 OE_DIFF3 (in) "Active high input pin enables DIFF3 (internal 100kohm pull-up).", 10 OE_DIFF[4:5] (in) "Active high input pin enables DIFF[4:5] (internal 100kohm pull-up).", 11 OE_DIFF[6:8] (in) "Active high input pin enables DIFF[6:8] (internal 100kohm pull-up).", 14 DIFF0 (out) "0.7 V, 100 MHz differential clock.", 15 ~{DIFF0} (out) "0.7 V, 100 MHz differential clock.", 17 DIFF1 (out) "0.7 V, 100 MHz differential clock.", 18 ~{DIFF1} (out) "0.7 V, 100 MHz differential clock.", 19 DIFF2 (out) "0.7 V, 100 MHz differential clock.", 20 ~{DIFF2} (out) "0.7 V, 100 MHz differential clock.", 21 DIFF3 (out) "0.7 V, 100 MHz differential clock.", 22 ~{DIFF3} (out) "0.7 V, 100 MHz differential clock.", 25 ~{DIFF4} (out) "0.7 V, 100 MHz differential clock.", 26 DIFF4 (out) "0.7 V, 100 MHz differential clock.", 27 ~{DIFF5} (out) "0.7 V, 100 MHz differential clock.", 28 DIFF5 (out) "0.7 V, 100 MHz differential clock.", 30 ~{DIFF6} (out) "0.7 V, 100 MHz differential clock.", 31 DIFF6 (out) "0.7 V, 100 MHz differential clock.", 32 ~{DIFF7} (out) "0.7 V, 100 MHz differential clock.", 33 DIFF7 (out) "0.7 V, 100 MHz differential clock.", 35 ~{DIFF8} (out) "0.7 V, 100 MHz differential clock.", 36 DIFF8 (out) "0.7 V, 100 MHz differential clock.", 37 SCLK (in) "I2C compatible SCLOCK.", 38 SDATA (io) "I2C compatible SDATA.", 39 CKPWRGD/PDB (in), 41 DIFFIN (in) "0.7 V Differential True Input, typically 100 MHz. Input frequency range 100 to 210 MHz.", 42 ~{DIFFIN} (in) "0.7 V Differential Complement Input, typically 100 MHz. Input frequency range 100 to 210 MHz.", 43 NC "No connect.", 44 NC "No connect.", 47 NC "No connect.", 48 NC "No connect."
part B pins: 1 VDD_DIFF (power) "3.3 V power supply.", 2 VDD_DIFF (power) "3.3 V power supply.", 5 VDD_DIFF (power) "3.3 V power supply.", 6 VSS_DIFF (power) "Ground.", 7 VSS_DIFF (power) "Ground.", 12 VDD_DIFF (power) "3.3 V power supply.", 13 VDD_DIFF (power) "3.3 V power supply.", 16 VSS_DIFF (power) "Ground.", 23 VDD_DIFF (power) "3.3V power supply.", 24 VSS_DIFF (power) "Ground.", 29 VSS_DIFF (power) "Ground.", 34 VDD_DIFF (power) "3.3 V power supply.", 40 VDD_CORE (power) "3.3 V power supply for core.", 45 VSS_CORE (power) "Ground for core.", 46 VSS_DIFF (power) "Ground.", 49 GND (power) "Ground for bottom pad of the IC."

## Si53301-B-GM
designator U?
1:6 Low Jitter Universal Buffer / Level Translator with 2:1 Input MUX, 1 to 725 MHz, -40 to 85 degC, 32-pin QFN; Manufacturer: Silicon Labs; PartNumber: Si53301-B-GM; Frequency (MHz): 1 to 725; Output Format: LVPECL; LVDS; CML; HCSL; LVCMOS; Sub-Family: Clock Buffers; DatasheetVersion: Rev. 1.0; PackageReference: QFN-32; PackageDescription: 32-Pin Quad-Flat No-Leads Package, Body 5 x 5 mm, Pitch 0.5 mm; Supplier 1: Digi-Key; Supplier Part Number 1: 336-2391-5-ND; Supplier 2: Mouser; Supplier Part Number 2: 634-SI53301-B-GM; Mounting Technology: Surface Mount; Code_JEDEC: MO-220; Code_IPC: J-STD-020; ComponentLink1Description: Manufacturer URL; ComponentLink1URL: http://www.silabs.com/; ComponentLink2Description: Datasheet; ComponentLink2URL: http://www.silabs.com/Support%20Documents/TechnicalDocs/Si53301.pdf; ComponentLink3Description: Package Specification; ComponentLink3URL: http://www.silabs.com/Support%20Documents/TechnicalDocs/Si53301.pdf
footprint SLAB-QFN-32-2150x2150TP_N (QFN, 32-Leads, Body 5x5mm, Pitch 0.5mm, Thermal Pad 2.15x2.15mm, IPC Medium Density)
footprint SLAB-QFN-32-2150x2150TP_L (QFN, 32-Leads, Body 5x5mm, Pitch 0.5mm, Thermal Pad 2.15x2.15mm, IPC High Density)
footprint SLAB-QFN-32-2150x2150TP_M (QFN, 32-Leads, Body 5x5mm, Pitch 0.5mm, Thermal Pad 2.15x2.15mm, IPC Low Density)
pins: 1 DIVA (in) "Output divider control pin for Bank A Three-level input control. Internally biased at VDD/2. Can be left floating or tied to ground or VDD.", 2 SFOUTA1 (in) "Output signal format control pin for Bank A Three-level input control. Internally biased at VDD/2. Can be left floating or tied to ground or VDD.", 3 SFOUTA0 (in) "Output signal format control pin for Bank A Three-level input control. Internally biased at VDD/2. Can be left floating or tied to ground or VDD.", 4 ~{Q0} (out) "Output clock 0 (complement)", 5 Q0 (out) "Output clock 0", 6 GND (power) "Ground", 7 VDD (power) "Core voltage supply.Bypass with 1.0 uF capacitor and place as close to the VDD pin as possible.", 8 CLK_SEL (in) "Mux input select pin (LVCMOS) Clock inputs are switched without the introduction of glitches. When CLK_SEL is high, CLK1 is selected. When CLK_SEL is low, CLK0 is selected. CLK_SEL contains an internal pull-down resistor.", 9 LOS0 (out) "The LOS0 status pin indicates whether a clock is present (LOS0 = 0) or not present (LOS0 = 1) at the CLK0 pin.", 10 CLK0 (in) "Input clock 0", 11 ~{CLK0} (in) "Input clock 0 (complement) When the CLK0 is driven by a single-ended input, connect C\L\K\0\ to VDD/2. See Figure 1, “Differential Measurement Method Using a Balun,” on page 10.", 12 OEA (in) "Output enable-Bank A When OE = high, the Bank A outputs are enabled. When OE = low, Q is held low, and Q\ is held high for differential formats. For LVCMOS, both Q and Q\ are held low when OE is set low. OEA contains an (See Datasheet)", 13 OEB (in) "Output enable-Bank B When OE = high, the Bank B outputs are enabled. When OE = low, Q is held low, and Q\ is held high for differential formats. For LVCMOS, both Q and Q\ are held low when OE is set low. OEB contains an (See Datasheet)", 14 CLK1 (in) "Input clock 1", 15 ~{CLK1} (in) "Input clock 1 (complement) When the C\L\K\1\ is driven by a single-ended input, connect C\L\K\1\ to VDD/2. See Figure 1, “Differential Measurement Method Using a Balun,” on page 10.", 16 LOS1 (out) "The LOS1 status pin indicates whether a clock is present (LOS1 = 0) or not present(LOS1 = 1) at the CLK1 pin.", 17 VREF (out) "Input reference voltage", 18 VDDOA (power) "Output voltage supply-Bank A (Outputs: Q0 to Q2) Bypass with 1.0 uF capacitor and place as close to the VDDOA pin as possible.", 19 VDDOB (power) "Output voltage supply-Bank B (Outputs: Q3 to Q5) Bypass with 1.0 uF capacitor and place as close to the VDDOB pin as possible.", 20 ~{Q5} (out) "Output clock 5 (complement)", 21 Q5 (out) "Output clock 5", 22 SFOUTB0 (in) "Output signal format control pin for Bank B.Three-level input control. Internally biased at VDD/2. Can be left floating or tied toground or VDD.", 23 SFOUTB1 (in) "Output signal format control pin for Bank B.Three-level input control. Internally biased at VDD/2. Can be left floating or tied to ground or VDD.", 24 DIVB (in) "Output divider control pin for Bank B.Three-level input control. Internally biased at VDD/2. Can be left floating or tied to ground or VDD.", 25 ~{Q4} (out) "Output clock 4 (complement)", 26 Q4 (out) "Output clock 4", 27 ~{Q3} (out) "Output clock 3 (complement)", 28 Q3 (out) "Output clock 3", 29 ~{Q2} (out) "Output clock 2 (complement)", 30 Q2 (out) "Output clock 2", 31 ~{Q1} (out) "Output clock 1 (complement)", 32 Q1 (out) "Output clock 1", 33 GND (power) "Ground Pad.Power supply ground and thermal relief."

## Si53302-B-GM
designator U?
1:10 Low Jitter Universal Buffer/ Level Translator with 2:1 Input MUX, 1 to 725 MHz, -40 to 85 degC, 44-pin QFN; Manufacturer: Silicon Labs; PartNumber: Si53302-B-GM; Frequency (MHz): 1 to 725; Output Format: LVPECL; LVDS; CML; HCSL; LVCMOS; Sub-Family: Clock Buffers; DatasheetVersion: Rev. 1.0; PackageReference: QFN-44; PackageDescription: 44-Pin Quad-Flat No-Leads Package, Body 7 x 7 mm, Pitch 0.5 mm; Supplier 1: Digi-Key; Supplier Part Number 1: 336-2392-5-ND; Supplier 2: Mouser; Supplier Part Number 2: 634-SI53302-B-GM; Mounting Technology: Surface Mount; Code_JEDEC: MO-220; Code_IPC: J-STD-020; ComponentLink1Description: Manufacturer URL; ComponentLink1URL: http://www.silabs.com/; ComponentLink2Description: Datasheet; ComponentLink2URL: http://www.silabs.com/Support%20Documents/TechnicalDocs/Si53302.pdf; ComponentLink3Description: Package Specification; ComponentLink3URL: http://www.silabs.com/Support%20Documents/TechnicalDocs/Si53302.pdf
footprint SLAB-QFN-44-2800x2800TP_N (QFN, 44-Leads, Body 7x7mm, Pitch 0.5mm, Thermal Pad 2.8x2.8mm, IPC Medium Density)
footprint SLAB-QFN-44-2800x2800TP_L (QFN, 44-Leads, Body 7x7mm, Pitch 0.5mm, Thermal Pad 2.8x2.8mm, IPC High Density)
footprint SLAB-QFN-44-2800x2800TP_M (QFN, 44-Leads, Body 7x7mm, Pitch 0.5mm, Thermal Pad 2.8x2.8mm, IPC Low Density)
pins: 1 DIVA (in) "Output divider control pin for Bank A Three-level input control. Internally biased at VDD/2. Can be left floating or tied to ground or VDD.", 2 SFOUTA1 (in) "Output signal format control pin for Bank A Three-level input control. Internally biased at VDD/2. Can be left floating or tied to ground or VDD.", 3 SFOUTA0 (in) "Output signal format control pin for Bank A Three-level input control. Internally biased at VDD/2. Can be left floating or tied to ground or VDD.", 4 ~{Q2} (out) "Output clock 2 (complement)", 5 Q2 (out) "Output clock 2", 6 GND (power) "Ground", 7 ~{Q1} (out) "Output clock 1 (complement)", 8 Q1 (out) "Output clock 1", 9 ~{Q0} (out) "Output clock 0 (complement)", 10 Q0 (out) "Output clock 0", 11 NC "No connect", 12 VDD (power) "Core voltage supply Bypass with 1.0 uF capacitor and place close to the VDD pin as possible", 13 LOS0 (out) "The LOS0 status pin indicates whether a clock is present (LOS0 = 0) or not present (LOS0 = 1) at the CLK0 pin.", 14 CLK0 (in) "Input clock 0", 15 ~{CLK0} (in) "Input clock 0 (complement) When CLK0 is driven by a single-ended input, connect C\L\K\0\ to VDD/2.", 16 OEA (in) "Output enable-Bank A When OE = high, the Bank A outputs are enabled When OE = low, Q is held low and Q\ is held high for differential formats For LVCMOS, both Q and Q\ are held low when OE is set low OEA contains an internal (See Datasheet)", 17 VREF (out) "Input reference voltage.", 18 OEB (in) "Output enable-Bank B When OE = high, the Bank B outputs are enabled When OE = low, Q is held low and Q\ is held high for differential formats For LVCMOS, both Q and Q\ are held low when OE is set low OEB contains an internal (See Datasheet)", 19 CLK1 (in) "Input clock 1", 20 ~{CLK1} (in) "Input clock 1 (complement) When CLK1 is driven by a single-ended input, connect C\L\K\1\ to VDD/2.", 21 LOS1 (out) "The LOS1 status pin indicates whether a clock is present (LOS1 = 0) or not present (LOS1 = 1) at the CLK1 pin.", 22 GND (power) "Ground", 23 CLK_SEL (in) "MUX input select pin (LVCMOS) Clock inputs are switched without the introduction of glitches When CLK_SEL is high, CLK1 is selected When CLK_SEL is low, CLK0 is selected CLK_SEL contains an internal pull-down resistor", 24 ~{Q9} (out) "Output clock 9 (complement)", 25 Q9 (out) "Output clock 9", 26 ~{Q8} (out) "Output clock 8 (complement)", 27 Q8 (out) "Output clock 8", 28 NC "No connect", 29 ~{Q7} (out) "Output clock 7 (complement)", 30 Q7 (out) "Output clock 7", 31 SFOUTB0 (in) "Output signal format control pin for Bank B Three-level input control. Internally biased at VDD/2. Can be left floating or tied to ground or VDD.", 32 SFOUTB1 (in) "Output signal format control pin for Bank B Three-level input control. Internally biased at VDD/2. Can be left floating or tied to ground or VDD.", 33 DIVB (in) "Output divider configuration bit for Bank B Three-level input control. Internally biased at VDD/2. Can be left floating or tied to ground or VDD.", 34 VDDOB (power) "Output Clock Voltage Supply-Bank B (Outputs: Q5 to Q9) Bypass with 1.0 uF capacitor and place close to the VDDOB pin as possible", 35 ~{Q6} (out) "Output clock 6 (complement)", 36 Q6 (out) "Output clock 6", 37 ~{Q5} (out) "Output clock 5 (complement)", 38 Q5 (out) "Output clock 5", 39 GND (power) "Ground", 40 ~{Q4} (out) "Output clock 4 (complement)", 41 Q4 (out) "Output clock 4", 42 ~{Q3} (out) "Output clock 3 (complement)", 43 Q3 (out) "Output clock 3", 44 VDDOA (power) "Output Voltage Supply-Bank A (Outputs: Q0 to Q4) Bypass with 1.0 uF capacitor and place close to the VDDOA pin as possible", 45 GND (power) "Ground Pad. Power supply ground and thermal relief"